# Altium integrated library Linear Technology Power Management Hot Swap Controllers.IntLib: 992 symbols (part 54 of 93)
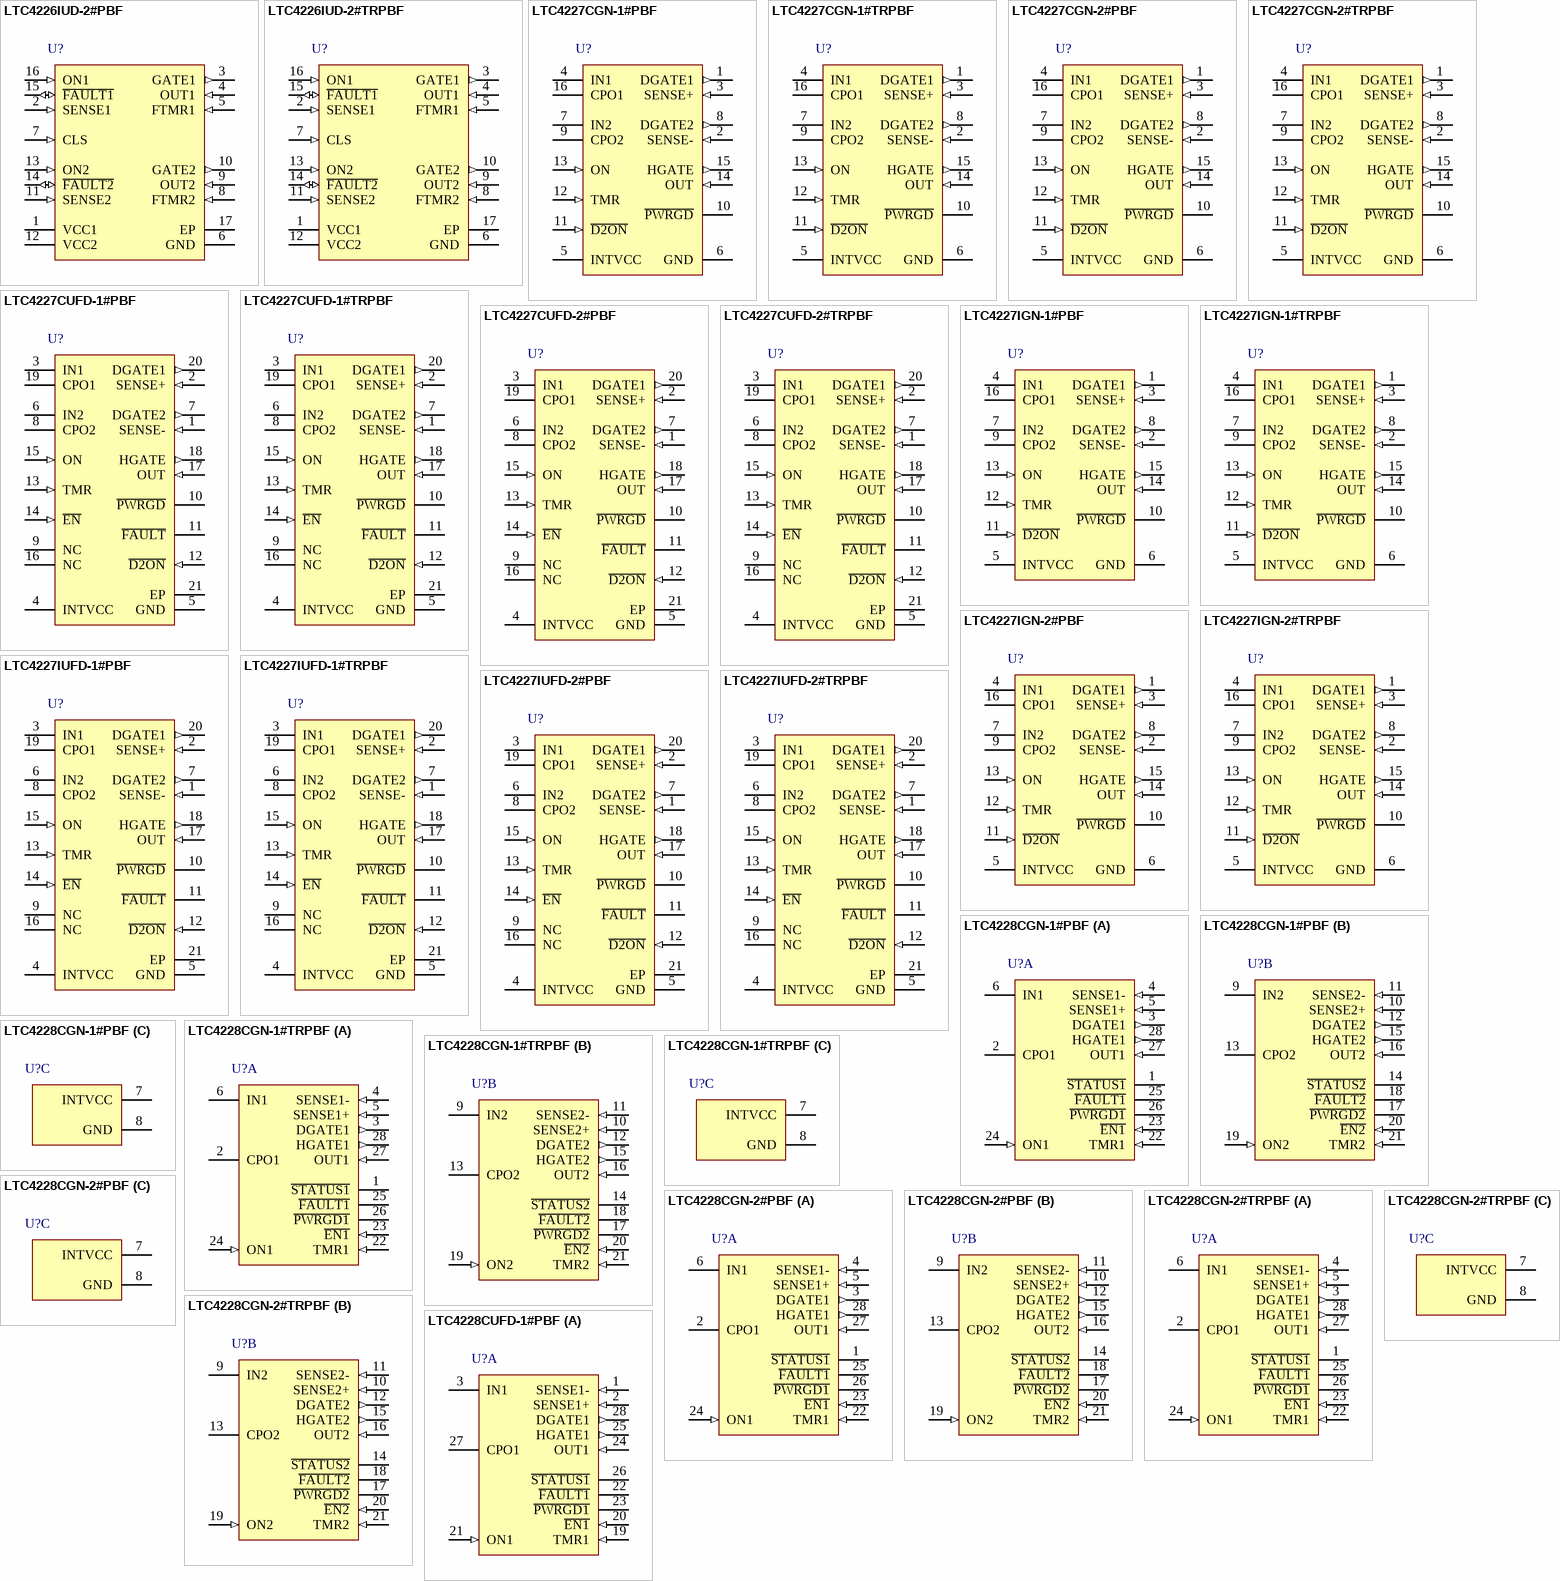
[diagram p90: symbols LTC4226IUD-2#PBF to LTC4228CUFD-1#PBF]

## LTC4227IGN-2#TRPBF
designator U?
Dual Ideal Diode and Single Hot Swap Controller, 2.9 to 18 V Vin, 16-pin SOP (GN-16), -40 to 85 degC, Pb-Free, Tape and Reel; Manufacturer: Linear Technology; PartNumber: LTC4227IGN-2#TRPBF; Active Limiting: yes; Circuit Breaker Threshold: 50 mV; Circuit Breakers(#): 1; Extended Temp: C, I; Foldback: no; PackageVersion: Rev. B, 03/2012; PackageReference: GN-16; PackageDescription: 16-Pin Plastic SSOP, Body 4.9 x 3.9 mm, Pitch 0.635 mm; Supplier 1: Digi-Key; Supplier Part Number 1: LTC4227IGN-2#TRPBF-ND; Fast Comparator: yes; Fault: yes; Packing: Tape and Reel; Power Good: yes; Reset: no; RoHS: TRUE; Vin Range: 2.9 to 18 V; Mounting Technology: Surface Mount; ComponentLink1Description: Manufacturer URL; ComponentLink1URL: http://www.linear.com/; ComponentLink2Description: Datasheet; ComponentLink2URL: http://cds.linear.com/docs/en/datasheet/422712f.pdf; ComponentLink3Description: Package Specification; ComponentLink3URL: http://cds.linear.com/docs/en/packaging/05081641_B_GN16.pdf
footprint LT-GN-16_N (SOP, 16-Leads, Body 5x4mm, Pitch 0.635mm, IPC Medium Density)
footprint LT-GN-16_L (SOP, 16-Leads, Body 5x4mm, Pitch 0.635mm, IPC High Density)
footprint LT-GN-16_M (SOP, 16-Leads, Body 5x4mm, Pitch 0.635mm, IPC Low Density)
pins: 1 DGATE1 (out) "DGATE1, DGATE2: Ideal Diode MOSFET Gate Drive Output. Connect this pin to the gate of an external N-channel MOSFET for ideal diode control. An internal clamp limits the gate voltage to 12V above and a diode voltage below IN. (See Datasheet)", 2 SENSE- (in) "SENSE-: Negative Current Sense Input. Connect this pin to the output of the current sense resistor. The current limit circuit controls HGATE to limit the voltage between SENSE+ and SENSE- to 65mV. A circuit breaker trips (See Datasheet)", 3 SENSE+ (in) "SENSE+: Positive Current Sense Input. Connect this pin to the diode-OR output of the external ideal diode MOSFETs and input of the current sense resistor. The voltage sensed at this pin is used for monitoring the current (See Datasheet)", 4 IN1 (power) "IN1, IN2: Positive Supply Input and MOSFET Gate Drive Return. Connect this pin to the power input side of the external ideal diode MOSFET. The 5V INTVCC supply is generated from IN1 and IN2 via an internal diode-OR. The (See Datasheet)", 5 INTVCC (power) "INTVCC: Internal 5V Supply Decoupling Output. This pin must have a 0.1uF or larger capacitor. An external load of less than 500uA can be connected at this pin.", 6 GND (power) "GND: Device Ground.", 7 IN2 (power) "IN1, IN2: Positive Supply Input and MOSFET Gate Drive Return. Connect this pin to the power input side of the external ideal diode MOSFET. The 5V INTVCC supply is generated from IN1 and IN2 via an internal diode-OR. The (See Datasheet)", 8 DGATE2 (out) "DGATE1, DGATE2: Ideal Diode MOSFET Gate Drive Output. Connect this pin to the gate of an external N-channel MOSFET for ideal diode control. An internal clamp limits the gate voltage to 12V above and a diode voltage below IN. (See Datasheet)", 9 CPO2 "CPO1, CPO2: Charge Pump Output. Connect a capacitor from CPO1 or CPO2 to the corresponding IN1 or IN2 pin. The value of this capacitor is approximately 10x the gate capacitance (CISS) of the external MOSFET for ideal diode (See Datasheet)", 10 ~{PWRGD} (oc) "P\W\R\G\D\: Power Status Output. Open-drain output that is normally pulled high by a 10uA current source to a diode below INTVCC. It may be pulled above INTVCC using an external pull-up. It pulls low when the MOSFET gate (See Datasheet)", 11 ~{D2ON} (in) "D\2\O\N\: On Control Input. A falling edge turns on the external ideal diode MOSFET in the IN2 supply path and a rising edge turns it off. Connect this pin to an external resistive divider from IN1 to make IN1 the higher (See Datasheet)", 12 TMR (in) "TMR: Timer Capacitor Terminal. Connect a capacitor between this pin and ground to set a 12ms/uF duration for current limit before the external Hot Swap MOSFET is turned off. The duration of the off-time is 617ms/uF, (See Datasheet)", 13 ON (in) "ON: On Control Input. A rising edge above 1.235V turns on the external Hot Swap MOSFET and a falling edge below 1.155V turns it off. Connect this pin to an external resistive divider from SENSE+ to monitor the supply (See Datasheet)", 14 OUT (in) "OUT: MOSFET Gate Drive Return. Connect this pin to the output side of the external Hot Swap MOSFET. The gate fast pull-down current returns through this pin when HGATE is discharged.", 15 HGATE (out) "HGATE: Hot Swap MOSFET Gate Drive Output. Connect this pin to the gate of the external N-channel MOSFET for Hot Swap control. An internal 10uA current source charges the MOSFET gate. An internal clamp limits the gate voltage (See Datasheet)", 16 CPO1 "CPO1, CPO2: Charge Pump Output. Connect a capacitor from CPO1 or CPO2 to the corresponding IN1 or IN2 pin. The value of this capacitor is approximately 10x the gate capacitance (CISS) of the external MOSFET for ideal diode (See Datasheet)"

## LTC4227IUFD-1#PBF
designator U?
Dual Ideal Diode and Single Hot Swap Controller, 2.9 to 18 V Vin, 20-pin QFN (UFD-20), -40 to 85 degC, Pb-Free; Manufacturer: Linear Technology; PartNumber: LTC4227IUFD-1#PBF; Active Limiting: yes; Circuit Breaker Threshold: 50 mV; Circuit Breakers(#): 1; Extended Temp: C, I; Foldback: no; PackageVersion: Rev. B, 06/2010; PackageReference: UFD-20; PackageDescription: 20-Pin Plastic QFN, Body 5 x 4 mm, Pitch 0.5 mm; Supplier 1: Digi-Key; Supplier Part Number 1: LTC4227IUFD-1#PBF-ND; Fast Comparator: yes; Fault: yes; Power Good: yes; Reset: no; RoHS: TRUE; Vin Range: 2.9 to 18 V; Mounting Technology: Surface Mount; Code_JEDEC: MO-220; ComponentLink1Description: Manufacturer URL; ComponentLink1URL: http://www.linear.com/; ComponentLink2Description: Datasheet; ComponentLink2URL: http://cds.linear.com/docs/en/datasheet/422712f.pdf; ComponentLink3Description: Package Specification; ComponentLink3URL: http://cds.linear.com/docs/en/packaging/QFN_20_05-08-1711.pdf
footprint LT-UFD-20_N (QFN, 20-Leads, Body 5.1x4.1mm, Pitch 0.5mm, Thermal Pad 2.65x3.65mm, IPC Medium Density)
footprint LT-UFD-20_L (QFN, 20-Leads, Body 5.1x4.1mm, Pitch 0.5mm, Thermal Pad 2.65x3.65mm, IPC High Density)
footprint LT-UFD-20_M (QFN, 20-Leads, Body 5.1x4.1mm, Pitch 0.5mm, Thermal Pad 2.65x3.65mm, IPC Low Density)
pins: 1 SENSE- (in) "Negative Current Sense Input. Connect this pin to the output of the current sense resistor. The current limit circuit controls HGATE to limit the voltage between SENSE+ and SENSE- to 65mV. A circuit breaker trips when the (See Datasheet)", 2 SENSE+ (in) "Positive Current Sense Input. Connect this pin to the diode-OR output of the external ideal diode MOSFETs and input of the current sense resistor. The voltage sensed at this pin is used for monitoring the current limit and (See Datasheet)", 3 IN1 (power) "Positive Supply Input and MOSFET Gate Drive Return. Connect this pin to the power input side of the external ideal diode MOSFET. The 5V INTVCC supply is generated from IN1 and IN2 via an internal diode-OR. The voltage sensed (See Datasheet)", 4 INTVCC (power) "Internal 5V Supply Decoupling Output. This pin must have a 0.1uF or larger capacitor. An external load of less than 500uA can be connected at this pin.", 5 GND (power) "Device Ground.", 6 IN2 (power) "Positive Supply Input and MOSFET Gate Drive Return. Connect this pin to the power input side of the external ideal diode MOSFET. The 5V INTVCC supply is generated from IN1 and IN2 via an internal diode-OR. The voltage sensed (See Datasheet)", 7 DGATE2 (out) "Ideal Diode MOSFET Gate Drive Output. Connect this pin to the gate of an external N-channel MOSFET for ideal diode control. An internal clamp limits the gate voltage to 12V above and a diode voltage below IN. During fast (See Datasheet)", 8 CPO2 "Charge Pump Output. Connect a capacitor from CPO1 or CPO2 to the corresponding IN1 or IN2 pin. The value of this capacitor is approximately 10x the gate capacitance (CISS) of the external MOSFET for ideal diode control. The (See Datasheet)", 9 NC "No Connection. Not internally connected.", 10 ~{PWRGD} (oc) "Power Status Output. Open-drain output that is normally pulled high by a 10uA current source to a diode below INTVCC. It may be pulled above INTVCC using an external pull-up. It pulls low when the MOSFET gate drive between (See Datasheet)", 11 ~{FAULT} (oc) "Fault Status Output. Open-drain output that is normally pulled high by a 10uA current source to a diode below INTVCC. It may be pulled above INTVCC using an external pull-up. It pulls low when the circuit breaker is tripped (See Datasheet)", 12 ~{D2ON} (in) "On Control Input. A falling edge turns on the external ideal diode MOSFET in the IN2 supply path and a rising edge turns it off. Connect this pin to an external resistive divider from IN1 to make IN1 the higher priority (See Datasheet)", 13 TMR (in) "Timer Capacitor Terminal. Connect a capacitor between this pin and ground to set a 12ms/uF duration for current limit before the external Hot Swap MOSFET is turned off. The duration of the off-time is 617ms/uF, resulting in (See Datasheet)", 14 ~{EN} (in) "Enable Input. Ground this pin to enable Hot Swap control. If this pin is pulled high, the MOSFET is not allowed to turn on. A 10uA current source pulls this pin up to a diode below INTVCC. Upon E\N\ going low when ON is (See Datasheet)", 15 ON (in) "On Control Input. A rising edge above 1.235V turns on the external Hot Swap MOSFET and a falling edge below 1.155V turns it off. Connect this pin to an external resistive divider from SENSE+ to monitor the supply (See Datasheet)", 16 NC "No Connection. Not internally connected.", 17 OUT (in) "MOSFET Gate Drive Return. Connect this pin to the output side of the external Hot Swap MOSFET. The gate fast pull-down current returns through this pin when HGATE is discharged.", 18 HGATE (out) "Hot Swap MOSFET Gate Drive Output. Connect this pin to the gate of the external N-channel MOSFET for Hot Swap control. An internal 10uA current source charges the MOSFET gate. An internal clamp limits the gate voltage to 12V (See Datasheet)", 19 CPO1 "Charge Pump Output. Connect a capacitor from CPO1 or CPO2 to the corresponding IN1 or IN2 pin. The value of this capacitor is approximately 10x the gate capacitance (CISS) of the external MOSFET for ideal diode control. The (See Datasheet)", 20 DGATE1 (out) "Ideal Diode MOSFET Gate Drive Output. Connect this pin to the gate of an external N-channel MOSFET for ideal diode control. An internal clamp limits the gate voltage to 12V above and a diode voltage below IN. During fast (See Datasheet)", 21 EP (power) "Exposed pad may be left open or connected to device ground."

## LTC4227IUFD-1#TRPBF
designator U?
Dual Ideal Diode and Single Hot Swap Controller, 2.9 to 18 V Vin, 20-pin QFN (UFD-20), -40 to 85 degC, Pb-Free, Tape and Reel; Manufacturer: Linear Technology; PartNumber: LTC4227IUFD-1#TRPBF; Active Limiting: yes; Circuit Breaker Threshold: 50 mV; Circuit Breakers(#): 1; Extended Temp: C, I; Foldback: no; PackageVersion: Rev. B, 06/2010; PackageReference: UFD-20; PackageDescription: 20-Pin Plastic QFN, Body 5 x 4 mm, Pitch 0.5 mm; Supplier 1: Digi-Key; Supplier Part Number 1: LTC4227IUFD-1#TRPBF-ND; Fast Comparator: yes; Fault: yes; Packing: Tape and Reel; Power Good: yes; Reset: no; RoHS: TRUE; Vin Range: 2.9 to 18 V; Mounting Technology: Surface Mount; Code_JEDEC: MO-220; ComponentLink1Description: Manufacturer URL; ComponentLink1URL: http://www.linear.com/; ComponentLink2Description: Datasheet; ComponentLink2URL: http://cds.linear.com/docs/en/datasheet/422712f.pdf; ComponentLink3Description: Package Specification; ComponentLink3URL: http://cds.linear.com/docs/en/packaging/QFN_20_05-08-1711.pdf
footprint LT-UFD-20_N (QFN, 20-Leads, Body 5.1x4.1mm, Pitch 0.5mm, Thermal Pad 2.65x3.65mm, IPC Medium Density)
footprint LT-UFD-20_L (QFN, 20-Leads, Body 5.1x4.1mm, Pitch 0.5mm, Thermal Pad 2.65x3.65mm, IPC High Density)
footprint LT-UFD-20_M (QFN, 20-Leads, Body 5.1x4.1mm, Pitch 0.5mm, Thermal Pad 2.65x3.65mm, IPC Low Density)
pins: 1 SENSE- (in) "Negative Current Sense Input. Connect this pin to the output of the current sense resistor. The current limit circuit controls HGATE to limit the voltage between SENSE+ and SENSE- to 65mV. A circuit breaker trips when the (See Datasheet)", 2 SENSE+ (in) "Positive Current Sense Input. Connect this pin to the diode-OR output of the external ideal diode MOSFETs and input of the current sense resistor. The voltage sensed at this pin is used for monitoring the current limit and (See Datasheet)", 3 IN1 (power) "Positive Supply Input and MOSFET Gate Drive Return. Connect this pin to the power input side of the external ideal diode MOSFET. The 5V INTVCC supply is generated from IN1 and IN2 via an internal diode-OR. The voltage sensed (See Datasheet)", 4 INTVCC (power) "Internal 5V Supply Decoupling Output. This pin must have a 0.1uF or larger capacitor. An external load of less than 500uA can be connected at this pin.", 5 GND (power) "Device Ground.", 6 IN2 (power) "Positive Supply Input and MOSFET Gate Drive Return. Connect this pin to the power input side of the external ideal diode MOSFET. The 5V INTVCC supply is generated from IN1 and IN2 via an internal diode-OR. The voltage sensed (See Datasheet)", 7 DGATE2 (out) "Ideal Diode MOSFET Gate Drive Output. Connect this pin to the gate of an external N-channel MOSFET for ideal diode control. An internal clamp limits the gate voltage to 12V above and a diode voltage below IN. During fast (See Datasheet)", 8 CPO2 "Charge Pump Output. Connect a capacitor from CPO1 or CPO2 to the corresponding IN1 or IN2 pin. The value of this capacitor is approximately 10x the gate capacitance (CISS) of the external MOSFET for ideal diode control. The (See Datasheet)", 9 NC "No Connection. Not internally connected.", 10 ~{PWRGD} (oc) "Power Status Output. Open-drain output that is normally pulled high by a 10uA current source to a diode below INTVCC. It may be pulled above INTVCC using an external pull-up. It pulls low when the MOSFET gate drive between (See Datasheet)", 11 ~{FAULT} (oc) "Fault Status Output. Open-drain output that is normally pulled high by a 10uA current source to a diode below INTVCC. It may be pulled above INTVCC using an external pull-up. It pulls low when the circuit breaker is tripped (See Datasheet)", 12 ~{D2ON} (in) "On Control Input. A falling edge turns on the external ideal diode MOSFET in the IN2 supply path and a rising edge turns it off. Connect this pin to an external resistive divider from IN1 to make IN1 the higher priority (See Datasheet)", 13 TMR (in) "Timer Capacitor Terminal. Connect a capacitor between this pin and ground to set a 12ms/uF duration for current limit before the external Hot Swap MOSFET is turned off. The duration of the off-time is 617ms/uF, resulting in (See Datasheet)", 14 ~{EN} (in) "Enable Input. Ground this pin to enable Hot Swap control. If this pin is pulled high, the MOSFET is not allowed to turn on. A 10uA current source pulls this pin up to a diode below INTVCC. Upon E\N\ going low when ON is (See Datasheet)", 15 ON (in) "On Control Input. A rising edge above 1.235V turns on the external Hot Swap MOSFET and a falling edge below 1.155V turns it off. Connect this pin to an external resistive divider from SENSE+ to monitor the supply (See Datasheet)", 16 NC "No Connection. Not internally connected.", 17 OUT (in) "MOSFET Gate Drive Return. Connect this pin to the output side of the external Hot Swap MOSFET. The gate fast pull-down current returns through this pin when HGATE is discharged.", 18 HGATE (out) "Hot Swap MOSFET Gate Drive Output. Connect this pin to the gate of the external N-channel MOSFET for Hot Swap control. An internal 10uA current source charges the MOSFET gate. An internal clamp limits the gate voltage to 12V (See Datasheet)", 19 CPO1 "Charge Pump Output. Connect a capacitor from CPO1 or CPO2 to the corresponding IN1 or IN2 pin. The value of this capacitor is approximately 10x the gate capacitance (CISS) of the external MOSFET for ideal diode control. The (See Datasheet)", 20 DGATE1 (out) "Ideal Diode MOSFET Gate Drive Output. Connect this pin to the gate of an external N-channel MOSFET for ideal diode control. An internal clamp limits the gate voltage to 12V above and a diode voltage below IN. During fast (See Datasheet)", 21 EP (power) "Exposed pad may be left open or connected to device ground."

## LTC4227IUFD-2#PBF
designator U?
Dual Ideal Diode and Single Hot Swap Controller, 2.9 to 18 V Vin, 20-pin QFN (UFD-20), -40 to 85 degC, Pb-Free; Manufacturer: Linear Technology; PartNumber: LTC4227IUFD-2#PBF; Active Limiting: yes; Circuit Breaker Threshold: 50 mV; Circuit Breakers(#): 1; Extended Temp: C, I; Foldback: no; PackageVersion: Rev. B, 06/2010; PackageReference: UFD-20; PackageDescription: 20-Pin Plastic QFN, Body 5 x 4 mm, Pitch 0.5 mm; Supplier 1: Digi-Key; Supplier Part Number 1: LTC4227IUFD-2#PBF-ND; Supplier 2: Newark; Supplier Part Number 2: 59T5696; Fast Comparator: yes; Fault: yes; Power Good: yes; Reset: no; RoHS: TRUE; Vin Range: 2.9 to 18 V; Mounting Technology: Surface Mount; Code_JEDEC: MO-220; ComponentLink1Description: Manufacturer URL; ComponentLink1URL: http://www.linear.com/; ComponentLink2Description: Datasheet; ComponentLink2URL: http://cds.linear.com/docs/en/datasheet/422712f.pdf; ComponentLink3Description: Package Specification; ComponentLink3URL: http://cds.linear.com/docs/en/packaging/QFN_20_05-08-1711.pdf
footprint LT-UFD-20_N (QFN, 20-Leads, Body 5.1x4.1mm, Pitch 0.5mm, Thermal Pad 2.65x3.65mm, IPC Medium Density)
footprint LT-UFD-20_L (QFN, 20-Leads, Body 5.1x4.1mm, Pitch 0.5mm, Thermal Pad 2.65x3.65mm, IPC High Density)
footprint LT-UFD-20_M (QFN, 20-Leads, Body 5.1x4.1mm, Pitch 0.5mm, Thermal Pad 2.65x3.65mm, IPC Low Density)
pins: 1 SENSE- (in) "SENSE-: Negative Current Sense Input. Connect this pin to the output of the current sense resistor. The current limit circuit controls HGATE to limit the voltage between SENSE+ and SENSE- to 65mV. A circuit breaker trips (See Datasheet)", 2 SENSE+ (in) "SENSE+: Positive Current Sense Input. Connect this pin to the diode-OR output of the external ideal diode MOSFETs and input of the current sense resistor. The voltage sensed at this pin is used for monitoring the current (See Datasheet)", 3 IN1 (power) "IN1, IN2: Positive Supply Input and MOSFET Gate Drive Return. Connect this pin to the power input side of the external ideal diode MOSFET. The 5V INTVCC supply is generated from IN1 and IN2 via an internal diode-OR. The (See Datasheet)", 4 INTVCC (power) "INTVCC: Internal 5V Supply Decoupling Output. This pin must have a 0.1uF or larger capacitor. An external load of less than 500uA can be connected at this pin.", 5 GND (power) "GND: Device Ground.", 6 IN2 (power) "IN1, IN2: Positive Supply Input and MOSFET Gate Drive Return. Connect this pin to the power input side of the external ideal diode MOSFET. The 5V INTVCC supply is generated from IN1 and IN2 via an internal diode-OR. The (See Datasheet)", 7 DGATE2 (out) "DGATE1, DGATE2: Ideal Diode MOSFET Gate Drive Output. Connect this pin to the gate of an external N-channel MOSFET for ideal diode control. An internal clamp limits the gate voltage to 12V above and a diode voltage below IN. (See Datasheet)", 8 CPO2 "CPO1, CPO2: Charge Pump Output. Connect a capacitor from CPO1 or CPO2 to the corresponding IN1 or IN2 pin. The value of this capacitor is approximately 10x the gate capacitance (CISS) of the external MOSFET for ideal diode (See Datasheet)", 9 NC "NC (UFD Package): No Connection. Not internally connected.", 10 ~{PWRGD} (oc) "P\W\R\G\D\: Power Status Output. Open-drain output that is normally pulled high by a 10uA current source to a diode below INTVCC. It may be pulled above INTVCC using an external pull-up. It pulls low when the MOSFET gate (See Datasheet)", 11 ~{FAULT} (oc) "F\A\U\L\T\ (UFD Package): Fault Status Output. Open-drain output that is normally pulled high by a 10uA current source to a diode below INTVCC. It may be pulled above INTVCC using an external pull-up. It pulls low when the (See Datasheet)", 12 ~{D2ON} (in) "D\2\O\N\: On Control Input. A falling edge turns on the external ideal diode MOSFET in the IN2 supply path and a rising edge turns it off. Connect this pin to an external resistive divider from IN1 to make IN1 the higher (See Datasheet)", 13 TMR (in) "TMR: Timer Capacitor Terminal. Connect a capacitor between this pin and ground to set a 12ms/uF duration for current limit before the external Hot Swap MOSFET is turned off. The duration of the off-time is 617ms/uF, (See Datasheet)", 14 ~{EN} (in) "E\N\ (UFD Package): Enable Input. Ground this pin to enable Hot Swap control. If this pin is pulled high, the MOSFET is not allowed to turn on. A 10uA current source pulls this pin up to a diode below INTVCC. Upon E\N\ going (See Datasheet)", 15 ON (in) "ON: On Control Input. A rising edge above 1.235V turns on the external Hot Swap MOSFET and a falling edge below 1.155V turns it off. Connect this pin to an external resistive divider from SENSE+ to monitor the supply (See Datasheet)", 16 NC "NC (UFD Package): No Connection. Not internally connected.", 17 OUT (in) "OUT: MOSFET Gate Drive Return. Connect this pin to the output side of the external Hot Swap MOSFET. The gate fast pull-down current returns through this pin when HGATE is discharged.", 18 HGATE (out) "HGATE: Hot Swap MOSFET Gate Drive Output. Connect this pin to the gate of the external N-channel MOSFET for Hot Swap control. An internal 10uA current source charges the MOSFET gate. An internal clamp limits the gate voltage (See Datasheet)", 19 CPO1 "CPO1, CPO2: Charge Pump Output. Connect a capacitor from CPO1 or CPO2 to the corresponding IN1 or IN2 pin. The value of this capacitor is approximately 10x the gate capacitance (CISS) of the external MOSFET for ideal diode (See Datasheet)", 20 DGATE1 (out) "DGATE1, DGATE2: Ideal Diode MOSFET Gate Drive Output. Connect this pin to the gate of an external N-channel MOSFET for ideal diode control. An internal clamp limits the gate voltage to 12V above and a diode voltage below IN. (See Datasheet)", 21 EP (power) "Exposed Pad (UFD Package): Exposed pad may be left open or connected to device ground."

## LTC4227IUFD-2#TRPBF
designator U?
Dual Ideal Diode and Single Hot Swap Controller, 2.9 to 18 V Vin, 20-pin QFN (UFD-20), -40 to 85 degC, Pb-Free, Tape and Reel; Manufacturer: Linear Technology; PartNumber: LTC4227IUFD-2#TRPBF; Active Limiting: yes; Circuit Breaker Threshold: 50 mV; Circuit Breakers(#): 1; Extended Temp: C, I; Foldback: no; PackageVersion: Rev. B, 06/2010; PackageReference: UFD-20; PackageDescription: 20-Pin Plastic QFN, Body 5 x 4 mm, Pitch 0.5 mm; Supplier 1: Digi-Key; Supplier Part Number 1: LTC4227IUFD-2#TRPBF-ND; Fast Comparator: yes; Fault: yes; Packing: Tape and Reel; Power Good: yes; Reset: no; RoHS: TRUE; Vin Range: 2.9 to 18 V; Mounting Technology: Surface Mount; Code_JEDEC: MO-220; ComponentLink1Description: Manufacturer URL; ComponentLink1URL: http://www.linear.com/; ComponentLink2Description: Datasheet; ComponentLink2URL: http://cds.linear.com/docs/en/datasheet/422712f.pdf; ComponentLink3Description: Package Specification; ComponentLink3URL: http://cds.linear.com/docs/en/packaging/QFN_20_05-08-1711.pdf
footprint LT-UFD-20_N (QFN, 20-Leads, Body 5.1x4.1mm, Pitch 0.5mm, Thermal Pad 2.65x3.65mm, IPC Medium Density)
footprint LT-UFD-20_L (QFN, 20-Leads, Body 5.1x4.1mm, Pitch 0.5mm, Thermal Pad 2.65x3.65mm, IPC High Density)
footprint LT-UFD-20_M (QFN, 20-Leads, Body 5.1x4.1mm, Pitch 0.5mm, Thermal Pad 2.65x3.65mm, IPC Low Density)
pins: 1 SENSE- (in) "SENSE-: Negative Current Sense Input. Connect this pin to the output of the current sense resistor. The current limit circuit controls HGATE to limit the voltage between SENSE+ and SENSE- to 65mV. A circuit breaker trips (See Datasheet)", 2 SENSE+ (in) "SENSE+: Positive Current Sense Input. Connect this pin to the diode-OR output of the external ideal diode MOSFETs and input of the current sense resistor. The voltage sensed at this pin is used for monitoring the current (See Datasheet)", 3 IN1 (power) "IN1, IN2: Positive Supply Input and MOSFET Gate Drive Return. Connect this pin to the power input side of the external ideal diode MOSFET. The 5V INTVCC supply is generated from IN1 and IN2 via an internal diode-OR. The (See Datasheet)", 4 INTVCC (power) "INTVCC: Internal 5V Supply Decoupling Output. This pin must have a 0.1uF or larger capacitor. An external load of less than 500uA can be connected at this pin.", 5 GND (power) "GND: Device Ground.", 6 IN2 (power) "IN1, IN2: Positive Supply Input and MOSFET Gate Drive Return. Connect this pin to the power input side of the external ideal diode MOSFET. The 5V INTVCC supply is generated from IN1 and IN2 via an internal diode-OR. The (See Datasheet)", 7 DGATE2 (out) "DGATE1, DGATE2: Ideal Diode MOSFET Gate Drive Output. Connect this pin to the gate of an external N-channel MOSFET for ideal diode control. An internal clamp limits the gate voltage to 12V above and a diode voltage below IN. (See Datasheet)", 8 CPO2 "CPO1, CPO2: Charge Pump Output. Connect a capacitor from CPO1 or CPO2 to the corresponding IN1 or IN2 pin. The value of this capacitor is approximately 10x the gate capacitance (CISS) of the external MOSFET for ideal diode (See Datasheet)", 9 NC "NC (UFD Package): No Connection. Not internally connected.", 10 ~{PWRGD} (oc) "P\W\R\G\D\: Power Status Output. Open-drain output that is normally pulled high by a 10uA current source to a diode below INTVCC. It may be pulled above INTVCC using an external pull-up. It pulls low when the MOSFET gate (See Datasheet)", 11 ~{FAULT} (oc) "F\A\U\L\T\ (UFD Package): Fault Status Output. Open-drain output that is normally pulled high by a 10uA current source to a diode below INTVCC. It may be pulled above INTVCC using an external pull-up. It pulls low when the (See Datasheet)", 12 ~{D2ON} (in) "D\2\O\N\: On Control Input. A falling edge turns on the external ideal diode MOSFET in the IN2 supply path and a rising edge turns it off. Connect this pin to an external resistive divider from IN1 to make IN1 the higher (See Datasheet)", 13 TMR (in) "TMR: Timer Capacitor Terminal. Connect a capacitor between this pin and ground to set a 12ms/uF duration for current limit before the external Hot Swap MOSFET is turned off. The duration of the off-time is 617ms/uF, (See Datasheet)", 14 ~{EN} (in) "E\N\ (UFD Package): Enable Input. Ground this pin to enable Hot Swap control. If this pin is pulled high, the MOSFET is not allowed to turn on. A 10uA current source pulls this pin up to a diode below INTVCC. Upon E\N\ going (See Datasheet)", 15 ON (in) "ON: On Control Input. A rising edge above 1.235V turns on the external Hot Swap MOSFET and a falling edge below 1.155V turns it off. Connect this pin to an external resistive divider from SENSE+ to monitor the supply (See Datasheet)", 16 NC "NC (UFD Package): No Connection. Not internally connected.", 17 OUT (in) "OUT: MOSFET Gate Drive Return. Connect this pin to the output side of the external Hot Swap MOSFET. The gate fast pull-down current returns through this pin when HGATE is discharged.", 18 HGATE (out) "HGATE: Hot Swap MOSFET Gate Drive Output. Connect this pin to the gate of the external N-channel MOSFET for Hot Swap control. An internal 10uA current source charges the MOSFET gate. An internal clamp limits the gate voltage (See Datasheet)", 19 CPO1 "CPO1, CPO2: Charge Pump Output. Connect a capacitor from CPO1 or CPO2 to the corresponding IN1 or IN2 pin. The value of this capacitor is approximately 10x the gate capacitance (CISS) of the external MOSFET for ideal diode (See Datasheet)", 20 DGATE1 (out) "DGATE1, DGATE2: Ideal Diode MOSFET Gate Drive Output. Connect this pin to the gate of an external N-channel MOSFET for ideal diode control. An internal clamp limits the gate voltage to 12V above and a diode voltage below IN. (See Datasheet)", 21 EP (power) "Exposed Pad (UFD Package): Exposed pad may be left open or connected to device ground."

## LTC4228CGN-1#PBF
designator U?
Dual Ideal Diode and Hot Swap Controller, 2.9 to 18 V Vin, 28-pin SOP (GN-28), 0 to 70 degC, Pb-Free; Manufacturer: Linear Technology; PartNumber: LTC4228CGN-1#PBF; Active Limiting: yes; Circuit Breaker Threshold: 50 mV; Extended Temp: C, I; Foldback: no; PackageVersion: Rev. B, 03/2012; PackageReference: GN-28; PackageDescription: 28-Pin Plastic SSOP, Body 9.9 x 3.9 mm, Pitch 0.635 mm; Supplier 1: Digi-Key; Supplier Part Number 1: LTC4228CGN-1#PBF-ND; Supplier 2: Newark; Supplier Part Number 2: 44W6819; Fast Comparator: yes; Fault: yes; Power Good: yes; Reset: no; RoHS: TRUE; Vin Range: 2.9 to 18 V; Mounting Technology: Surface Mount; ComponentLink1Description: Manufacturer URL; ComponentLink1URL: http://www.linear.com/; ComponentLink2Description: Datasheet; ComponentLink2URL: http://cds.linear.com/docs/en/datasheet/422812f.pdf; ComponentLink3Description: Package Specification; ComponentLink3URL: http://cds.linear.com/docs/en/packaging/05081641_B_GN28.pdf
footprint LT-GN-28_N (SOP, 28-Leads, Body 9.98x3.98mm, Pitch 0.635mm, IPC Medium Density)
footprint LT-GN-28_L (SOP, 28-Leads, Body 9.98x3.98mm, Pitch 0.635mm, IPC High Density)
footprint LT-GN-28_M (SOP, 28-Leads, Body 9.98x3.98mm, Pitch 0.635mm, IPC Low Density)
part A pins: 1 ~{STATUS1} (oc) "Diode MOSFET Status Output. Open-drain output that is normally pulled high by a 10uA current source to a diode below INTVCC. It may be pulled above INTVCC using an external pull-up. It pulls low when the MOSFET gate drive (See Datasheet)", 2 CPO1 "Charge Pump Output. Connect a capacitor from CPO1 or CPO2 to the corresponding IN1 or IN2 pin. The value of this capacitor is approximately 10x the gate capacitance (CISS) of the external MOSFET for ideal diode control. The (See Datasheet)", 3 DGATE1 (out) "Ideal Diode MOSFET Gate Drive Output. Connect this pin to the gate of an external N-channel MOSFET for ideal diode control. An internal clamp limits the gate voltage to 12V above and a diode voltage below IN. During fast (See Datasheet)", 4 SENSE1- (in) "Negative Current Sense Input. Connect this pin to the output of the current sense resistor. The current limit circuit controls HGATE to limit the voltage between SENSE+ and SENSE- to 65mV. A circuit breaker trips when the (See Datasheet)", 5 SENSE1+ (in) "Positive Current Sense Input. Connect this pin to the output of the external ideal diode MOSFET and input of the current sense resistor. The voltage sensed at this pin is used for monitoring the current limit. This pin has (See Datasheet)", 6 IN1 (power) "Positive Supply Input and Ideal Diode’s MOSFET Gate Drive Return. The 5V INTVCC supply is generated from IN1, IN2, OUT1 and OUT2 via an internal diode-OR. The voltage sensed at this pin is used to control DGATE for forwar(See Datasheet)", 22 TMR1 (in) "Timer Capacitor Terminal. Connect a capacitor between this pin and ground to set a 12ms/uF duration for current limit before the external Hot Swap MOSFET is turned off. The duration of the off time is 617ms/uF, resulting in (See Datasheet)", 23 ~{EN1} (in) "Enable Input. Ground this pin to enable Hot Swap control. If this pin is pulled high, the MOSFET is not allowed to turn on. A 10uA current source pulls this pin up to a diode below INTVCC. Upon E\N\ going low when ON is (See Datasheet)", 24 ON1 (in) "On Control Input. A rising edge above 1.235V turns on the external Hot Swap MOSFET and a falling edge below 1.155V turns it off. Connect this pin to an external resistive divider from IN or SENSE+ to monitor the supply (See Datasheet)", 25 ~{FAULT1} (oc) "Fault Status Output. Open-drain output that is normally pulled high by a 10uA current source to a diode below INTVCC. It may be pulled above INTVCC using an external pull-up. It pulls low when the circuit breaker is tripped (See Datasheet)", 26 ~{PWRGD1} (oc) "Power Status Output. Open-drain output that is normally pulled high by a 10uA current source to a diode below INTVCC. It may be pulled above INTVCC using an external pull-up. It pulls low when the MOSFET gate drive between (See Datasheet)", 27 OUT1 (in) "Output Voltage Sense and Hot Swap’s MOSFET Gate Drive Return. Connect this pin to the output side of the external MOSFET. The voltage sensed at this pin is used to control DGATE. The gate fast pull-down current return(See Datasheet)", 28 HGATE1 (out) "Hot Swap MOSFET Gate Drive Output. Connect this pin to the gate of the external N-channel MOSFET for Hot Swap control. An internal 10uA current source charges the MOSFET gate. An internal clamp limits the gate voltage to 12V (See Datasheet)"
part B pins: 9 IN2 (power) "Positive Supply Input and Ideal Diode’s MOSFET Gate Drive Return. The 5V INTVCC supply is generated from IN1, IN2, OUT1 and OUT2 via an internal diode-OR. The voltage sensed at this pin is used to control DGATE for forwar(See Datasheet)", 10 SENSE2+ (in) "Positive Current Sense Input. Connect this pin to the output of the external ideal diode MOSFET and input of the current sense resistor. The voltage sensed at this pin is used for monitoring the current limit. This pin has (See Datasheet)", 11 SENSE2- (in) "Negative Current Sense Input. Connect this pin to the output of the current sense resistor. The current limit circuit controls HGATE to limit the voltage between SENSE+ and SENSE- to 65mV. A circuit breaker trips when the (See Datasheet)", 12 DGATE2 (out) "Ideal Diode MOSFET Gate Drive Output. Connect this pin to the gate of an external N-channel MOSFET for ideal diode control. An internal clamp limits the gate voltage to 12V above and a diode voltage below IN. During fast (See Datasheet)", 13 CPO2 "Charge Pump Output. Connect a capacitor from CPO1 or CPO2 to the corresponding IN1 or IN2 pin. The value of this capacitor is approximately 10x the gate capacitance (CISS) of the external MOSFET for ideal diode control. The (See Datasheet)", 14 ~{STATUS2} (oc) "Diode MOSFET Status Output. Open-drain output that is normally pulled high by a 10uA current source to a diode below INTVCC. It may be pulled above INTVCC using an external pull-up. It pulls low when the MOSFET gate drive (See Datasheet)", 15 HGATE2 (out) "Hot Swap MOSFET Gate Drive Output. Connect this pin to the gate of the external N-channel MOSFET for Hot Swap control. An internal 10uA current source charges the MOSFET gate. An internal clamp limits the gate voltage to 12V (See Datasheet)", 16 OUT2 (in) "Output Voltage Sense and Hot Swap’s MOSFET Gate Drive Return. Connect this pin to the output side of the external MOSFET. The voltage sensed at this pin is used to control DGATE. The gate fast pull-down current return(See Datasheet)", 17 ~{PWRGD2} (oc) "Power Status Output. Open-drain output that is normally pulled high by a 10uA current source to a diode below INTVCC. It may be pulled above INTVCC using an external pull-up. It pulls low when the MOSFET gate drive between (See Datasheet)", 18 ~{FAULT2} (oc) "Fault Status Output. Open-drain output that is normally pulled high by a 10uA current source to a diode below INTVCC. It may be pulled above INTVCC using an external pull-up. It pulls low when the circuit breaker is tripped (See Datasheet)", 19 ON2 (in) "On Control Input. A rising edge above 1.235V turns on the external Hot Swap MOSFET and a falling edge below 1.155V turns it off. Connect this pin to an external resistive divider from IN or SENSE+ to monitor the supply (See Datasheet)", 20 ~{EN2} (in) "Enable Input. Ground this pin to enable Hot Swap control. If this pin is pulled high, the MOSFET is not allowed to turn on. A 10uA current source pulls this pin up to a diode below INTVCC. Upon E\N\ going low when ON is (See Datasheet)", 21 TMR2 (in) "Timer Capacitor Terminal. Connect a capacitor between this pin and ground to set a 12ms/uF duration for current limit before the external Hot Swap MOSFET is turned off. The duration of the off time is 617ms/uF, resulting in (See Datasheet)"
part C pins: 7 INTVCC (power) "Internal 5V Supply Decoupling Output. This pin must have a 0.1uF or larger capacitor. An external load of less than 500uA can be connected at this pin.", 8 GND (power) "Device Ground"

## LTC4228CGN-1#TRPBF
designator U?
Dual Ideal Diode and Hot Swap Controller, 2.9 to 18 V Vin, 28-pin SOP (GN-28), 0 to 70 degC, Pb-Free, Tape and Reel; Manufacturer: Linear Technology; PartNumber: LTC4228CGN-1#TRPBF; Active Limiting: yes; Circuit Breaker Threshold: 50 mV; Extended Temp: C, I; Foldback: no; PackageVersion: Rev. B, 03/2012; PackageReference: GN-28; PackageDescription: 28-Pin Plastic SSOP, Body 9.9 x 3.9 mm, Pitch 0.635 mm; Supplier 1: Digi-Key; Supplier Part Number 1: LTC4228CGN-1#TRPBF-ND; Supplier 2: Newark; Supplier Part Number 2: 44W6820; Fast Comparator: yes; Fault: yes; Packing: Tape and Reel; Power Good: yes; Reset: no; RoHS: TRUE; Vin Range: 2.9 to 18 V; Mounting Technology: Surface Mount; ComponentLink1Description: Manufacturer URL; ComponentLink1URL: http://www.linear.com/; ComponentLink2Description: Datasheet; ComponentLink2URL: http://cds.linear.com/docs/en/datasheet/422812f.pdf; ComponentLink3Description: Package Specification; ComponentLink3URL: http://cds.linear.com/docs/en/packaging/05081641_B_GN28.pdf
footprint LT-GN-28_N (SOP, 28-Leads, Body 9.98x3.98mm, Pitch 0.635mm, IPC Medium Density)
footprint LT-GN-28_L (SOP, 28-Leads, Body 9.98x3.98mm, Pitch 0.635mm, IPC High Density)
footprint LT-GN-28_M (SOP, 28-Leads, Body 9.98x3.98mm, Pitch 0.635mm, IPC Low Density)
part A pins: 1 ~{STATUS1} (oc) "Diode MOSFET Status Output. Open-drain output that is normally pulled high by a 10uA current source to a diode below INTVCC. It may be pulled above INTVCC using an external pull-up. It pulls low when the MOSFET gate drive (See Datasheet)", 2 CPO1 "Charge Pump Output. Connect a capacitor from CPO1 or CPO2 to the corresponding IN1 or IN2 pin. The value of this capacitor is approximately 10x the gate capacitance (CISS) of the external MOSFET for ideal diode control. The (See Datasheet)", 3 DGATE1 (out) "Ideal Diode MOSFET Gate Drive Output. Connect this pin to the gate of an external N-channel MOSFET for ideal diode control. An internal clamp limits the gate voltage to 12V above and a diode voltage below IN. During fast (See Datasheet)", 4 SENSE1- (in) "Negative Current Sense Input. Connect this pin to the output of the current sense resistor. The current limit circuit controls HGATE to limit the voltage between SENSE+ and SENSE- to 65mV. A circuit breaker trips when the (See Datasheet)", 5 SENSE1+ (in) "Positive Current Sense Input. Connect this pin to the output of the external ideal diode MOSFET and input of the current sense resistor. The voltage sensed at this pin is used for monitoring the current limit. This pin has (See Datasheet)", 6 IN1 (power) "Positive Supply Input and Ideal Diode’s MOSFET Gate Drive Return. The 5V INTVCC supply is generated from IN1, IN2, OUT1 and OUT2 via an internal diode-OR. The voltage sensed at this pin is used to control DGATE for forwar(See Datasheet)", 22 TMR1 (in) "Timer Capacitor Terminal. Connect a capacitor between this pin and ground to set a 12ms/uF duration for current limit before the external Hot Swap MOSFET is turned off. The duration of the off time is 617ms/uF, resulting in (See Datasheet)", 23 ~{EN1} (in) "Enable Input. Ground this pin to enable Hot Swap control. If this pin is pulled high, the MOSFET is not allowed to turn on. A 10uA current source pulls this pin up to a diode below INTVCC. Upon E\N\ going low when ON is (See Datasheet)", 24 ON1 (in) "On Control Input. A rising edge above 1.235V turns on the external Hot Swap MOSFET and a falling edge below 1.155V turns it off. Connect this pin to an external resistive divider from IN or SENSE+ to monitor the supply (See Datasheet)", 25 ~{FAULT1} (oc) "Fault Status Output. Open-drain output that is normally pulled high by a 10uA current source to a diode below INTVCC. It may be pulled above INTVCC using an external pull-up. It pulls low when the circuit breaker is tripped (See Datasheet)", 26 ~{PWRGD1} (oc) "Power Status Output. Open-drain output that is normally pulled high by a 10uA current source to a diode below INTVCC. It may be pulled above INTVCC using an external pull-up. It pulls low when the MOSFET gate drive between (See Datasheet)", 27 OUT1 (in) "Output Voltage Sense and Hot Swap’s MOSFET Gate Drive Return. Connect this pin to the output side of the external MOSFET. The voltage sensed at this pin is used to control DGATE. The gate fast pull-down current return(See Datasheet)", 28 HGATE1 (out) "Hot Swap MOSFET Gate Drive Output. Connect this pin to the gate of the external N-channel MOSFET for Hot Swap control. An internal 10uA current source charges the MOSFET gate. An internal clamp limits the gate voltage to 12V (See Datasheet)"
part B pins: 9 IN2 (power) "Positive Supply Input and Ideal Diode’s MOSFET Gate Drive Return. The 5V INTVCC supply is generated from IN1, IN2, OUT1 and OUT2 via an internal diode-OR. The voltage sensed at this pin is used to control DGATE for forwar(See Datasheet)", 10 SENSE2+ (in) "Positive Current Sense Input. Connect this pin to the output of the external ideal diode MOSFET and input of the current sense resistor. The voltage sensed at this pin is used for monitoring the current limit. This pin has (See Datasheet)", 11 SENSE2- (in) "Negative Current Sense Input. Connect this pin to the output of the current sense resistor. The current limit circuit controls HGATE to limit the voltage between SENSE+ and SENSE- to 65mV. A circuit breaker trips when the (See Datasheet)", 12 DGATE2 (out) "Ideal Diode MOSFET Gate Drive Output. Connect this pin to the gate of an external N-channel MOSFET for ideal diode control. An internal clamp limits the gate voltage to 12V above and a diode voltage below IN. During fast (See Datasheet)", 13 CPO2 "Charge Pump Output. Connect a capacitor from CPO1 or CPO2 to the corresponding IN1 or IN2 pin. The value of this capacitor is approximately 10x the gate capacitance (CISS) of the external MOSFET for ideal diode control. The (See Datasheet)", 14 ~{STATUS2} (oc) "Diode MOSFET Status Output. Open-drain output that is normally pulled high by a 10uA current source to a diode below INTVCC. It may be pulled above INTVCC using an external pull-up. It pulls low when the MOSFET gate drive (See Datasheet)", 15 HGATE2 (out) "Hot Swap MOSFET Gate Drive Output. Connect this pin to the gate of the external N-channel MOSFET for Hot Swap control. An internal 10uA current source charges the MOSFET gate. An internal clamp limits the gate voltage to 12V (See Datasheet)", 16 OUT2 (in) "Output Voltage Sense and Hot Swap’s MOSFET Gate Drive Return. Connect this pin to the output side of the external MOSFET. The voltage sensed at this pin is used to control DGATE. The gate fast pull-down current return(See Datasheet)", 17 ~{PWRGD2} (oc) "Power Status Output. Open-drain output that is normally pulled high by a 10uA current source to a diode below INTVCC. It may be pulled above INTVCC using an external pull-up. It pulls low when the MOSFET gate drive between (See Datasheet)", 18 ~{FAULT2} (oc) "Fault Status Output. Open-drain output that is normally pulled high by a 10uA current source to a diode below INTVCC. It may be pulled above INTVCC using an external pull-up. It pulls low when the circuit breaker is tripped (See Datasheet)", 19 ON2 (in) "On Control Input. A rising edge above 1.235V turns on the external Hot Swap MOSFET and a falling edge below 1.155V turns it off. Connect this pin to an external resistive divider from IN or SENSE+ to monitor the supply (See Datasheet)", 20 ~{EN2} (in) "Enable Input. Ground this pin to enable Hot Swap control. If this pin is pulled high, the MOSFET is not allowed to turn on. A 10uA current source pulls this pin up to a diode below INTVCC. Upon E\N\ going low when ON is (See Datasheet)", 21 TMR2 (in) "Timer Capacitor Terminal. Connect a capacitor between this pin and ground to set a 12ms/uF duration for current limit before the external Hot Swap MOSFET is turned off. The duration of the off time is 617ms/uF, resulting in (See Datasheet)"
part C pins: 7 INTVCC (power) "Internal 5V Supply Decoupling Output. This pin must have a 0.1uF or larger capacitor. An external load of less than 500uA can be connected at this pin.", 8 GND (power) "Device Ground"